# Altium schematic symbol library Schlib1.SchLib: 1 symbol
Pins are listed as number, name and electrical type; pins without a type are passive.

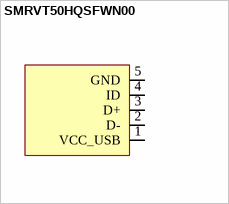
[diagram p0: symbol SMRVT50HQSFWN00]

## SMRVT50HQSFWN00
designator U?  Supplier Part Number 2: 166-RVT50HQSFWN00
ComponentLink1Description: Datasheet; ComponentLink1URL: https://docs.broadcom.com/docs/AV02-1841EN; ComponentLink2Description: DigiKey Link; ComponentLink2URL: http://digikey.com/product-detail/en/broadcom-limited/ASMT-QHBD-AFH0E/516-2951-1-ND/4240266; Value: *; Voltage rating: *; ComponentLink3Description: New link; ComponentLink3URL: *; Tolerance: *; Assembly Type: *; Supplier 1: DigiKey; Supplier 2: Mouser; Supplier Part Number 1: *
footprint Broadcom 4-PLLC 3228
pins: 1 VCC_USB, 2 D-, 3 D+, 4 ID, 5 GND